# Altium footprint library Basic.PcbLib: 43 footprints (part 3 of 3)
Each footprint in its own frame and in the unit in brackets; x right, y up, seen from the top. Pads: shape width x height; smd on the part's side, far side on the other; paste and mask are expansions set on the pad; w line width, h text height; cw(c..) or ccw(c..) is an arc to the next point about the centre after c.
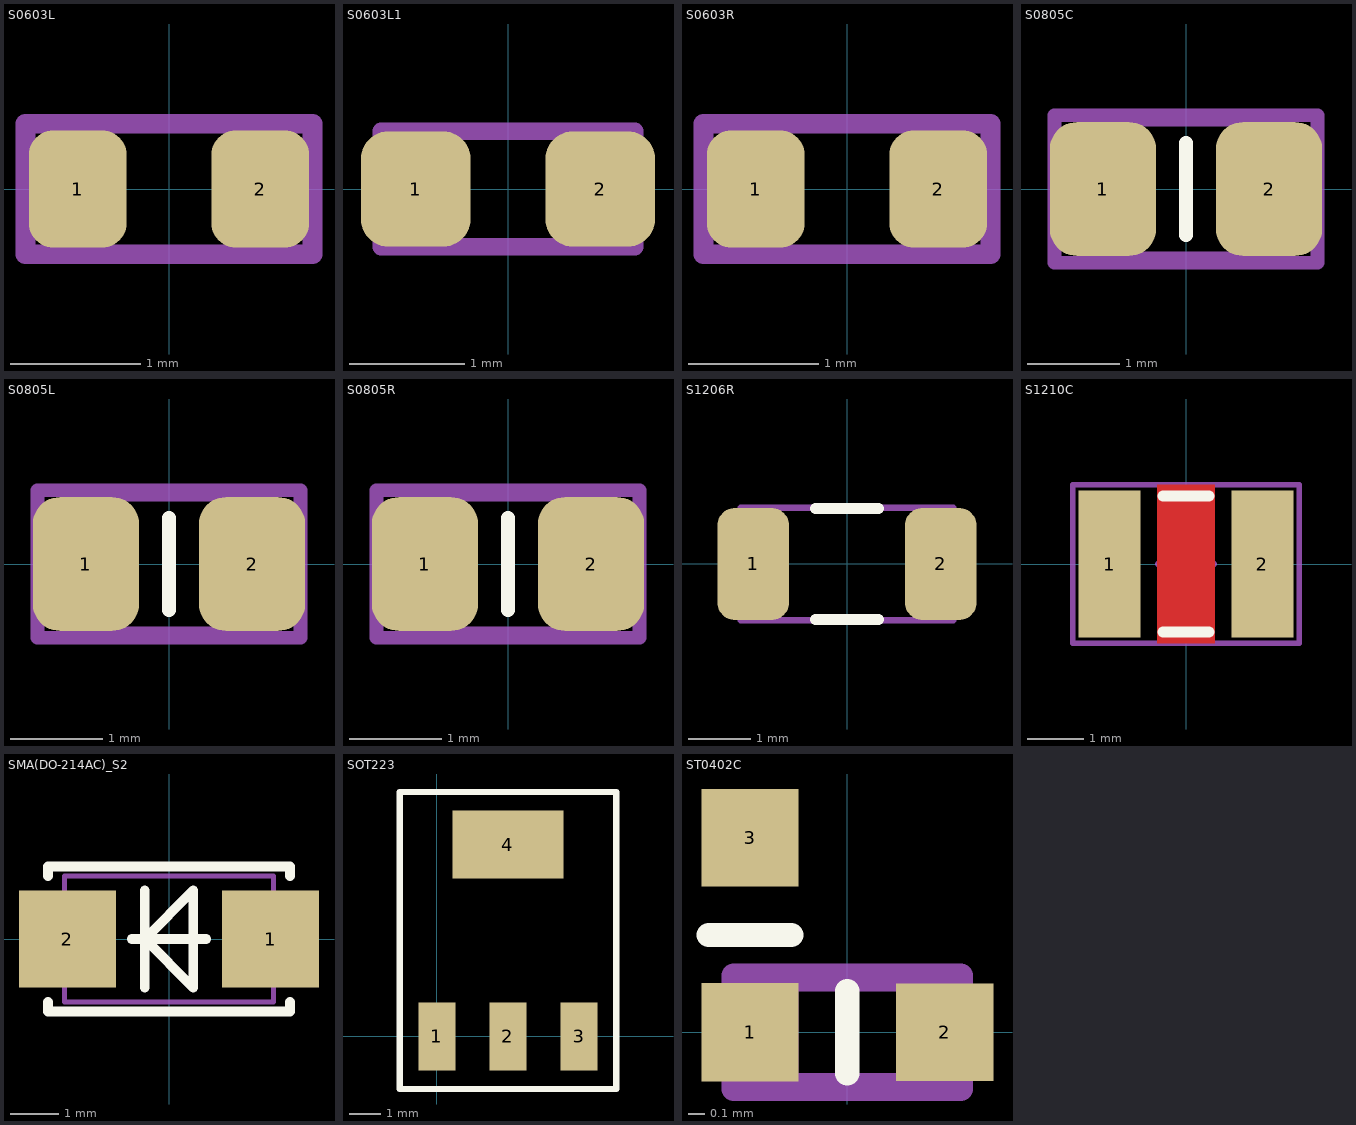
[diagram p2: the footprints below, top view; thin cyan lines are the x and y axes]

## S0603L [mm]
pads (2):
  rrect50% 0.75x0.9 smd: 1(-0.7,0) 2(0.7,0)
Top Component Outline:
  lines w0.15: -1.1,-0.5 1.1,-0.5 1.1,0.5 -1.1,0.5 -1.1,-0.5
3D body: height 0.85, standoff 0, extent -0.874,-0.474 -0.551,0.474
3D body: height 0.85, standoff 0, extent -0.549,-0.474 0.549,0.474
3D body: height 0.85, standoff 0, extent 0.551,-0.474 0.874,0.474

## S0603L1 [mm]
pads (2):
  rrect50% 0.95x1 smd: 1(-0.8,0) 2(0.8,0)
Top Component Outline:
  lines w0.15: -1.1,-0.5 1.1,-0.5 1.1,0.5 -1.1,0.5 -1.1,-0.5
3D body: height 0.85, standoff 0, extent -0.874,-0.474 -0.551,0.474
3D body: height 0.85, standoff 0, extent -0.549,-0.474 0.549,0.474
3D body: height 0.85, standoff 0, extent 0.551,-0.474 0.874,0.474

## S0603R [mm]
pads (2):
  rrect50% 0.75x0.9 smd: 1(-0.7,0) 2(0.7,0)
Top Component Outline:
  lines w0.15: -1.1,-0.5 1.1,-0.5 1.1,0.5 -1.1,0.5 -1.1,-0.5
3D body: height 0.85, standoff 0, extent -0.874,-0.474 -0.551,0.474
3D body: height 0.85, standoff 0, extent -0.549,-0.474 0.549,0.474
3D body: height 0.85, standoff 0, extent 0.551,-0.474 0.874,0.474

## S0805C [mm]
pads (2):
  rrect50% 1.151x1.451 smd: 1(-0.9,0) 2(0.9,0)
Top Overlay:
  lines w0.15: 0,-0.5 0,0.5
Top 3D Body:
  lines w0.1: -0.65,-0.725 -0.65,0.725 ; 0.65,-0.725 0.65,0.725 ; -1.1,-0.725 1.1,-0.725 1.1,0.725 -1.1,0.725 -1.1,-0.725
Top Component Outline:
  lines w0.15: -1.425,-0.8 -1.425,0.8 1.425,0.8 1.425,-0.8 -1.425,-0.8
3D body: height 1.45, standoff 0, extent -0.649,-0.724 0.649,0.724
3D body: height 1.45, standoff 0, extent 0.651,-0.724 1.099,0.724
3D body: height 1.45, standoff 0, extent -1.099,-0.724 -0.651,0.724

## S0805L [mm]
pads (2):
  rrect50% 1.151x1.451 smd: 1(-0.9,0) 2(0.9,0)
Top Overlay:
  lines w0.15: 0,-0.5 0,0.5
Top 3D Body:
  lines w0.1: -0.65,-0.725 -0.65,0.725 ; 0.65,-0.725 0.65,0.725 ; -1.1,-0.725 1.1,-0.725 1.1,0.725 -1.1,0.725 -1.1,-0.725
Top Component Outline:
  lines w0.15: -1.425,-0.8 -1.425,0.8 1.425,0.8 1.425,-0.8 -1.425,-0.8
3D body: height 1.45, standoff 0, extent -1.099,-0.724 -0.651,0.724
3D body: height 1.45, standoff 0, extent -0.649,-0.724 0.649,0.724
3D body: height 1.45, standoff 0, extent 0.651,-0.724 1.099,0.724

## S0805R [mm]
pads (2):
  rrect50% 1.151x1.451 smd: 1(-0.9,0) 2(0.9,0)
Top Overlay:
  lines w0.15: 0,-0.5 0,0.5
Top 3D Body:
  lines w0.1: -0.65,-0.725 -0.65,0.725 ; 0.65,-0.725 0.65,0.725 ; -1.1,-0.725 1.1,-0.725 1.1,0.725 -1.1,0.725 -1.1,-0.725
Top Component Outline:
  lines w0.15: -1.425,-0.8 -1.425,0.8 1.425,0.8 1.425,-0.8 -1.425,-0.8
3D body: height 1.45, standoff 0, extent -0.649,-0.724 0.649,0.724
3D body: height 1.45, standoff 0, extent 0.651,-0.724 1.099,0.724
3D body: height 1.45, standoff 0, extent -1.099,-0.724 -0.651,0.724

## S1206R [mm] "1206 from SM-752 data"
height 1.35
pads (2):
  rrect50% 1.151x1.799 smd: 1(-1.5,0) 2(1.5,0)
Top Overlay:
  lines w0.178: -0.5,-0.889 0.5,-0.889 ; -0.5,0.889 0.5,0.889
Top 3D Body:
  lines w0.1: -1.2,-0.9 -1.2,0.9 ; 1.2,-0.9 1.2,0.9 ; -1.7,-0.9 -1.7,0.9 1.7,0.9 1.7,-0.9 -1.7,-0.9
Top Component Outline:
  lines w0.1: -1.7,-0.9 -1.7,0.9 1.7,0.9 1.7,-0.9 -1.7,-0.9
3D body: height 1.35, standoff 0, extent 1.201,-0.899 1.699,0.899
3D body: height 1.35, standoff 0, extent -1.199,-0.899 1.199,0.899
3D body: height 1.35, standoff 0, extent -1.699,-0.899 -1.201,0.899

## S1210C [mm] "Chip Capacitor, Body 3.2x2.5mm, IPC High Density"
height 1.5
pads (2):
  rect 1.1x2.6 smd: 1(-1.35,0) 2(1.35,0)
Top Layer:
  pour cut-out: -0.508,-1.397 0.508,-1.397 0.508,1.397 -0.508,1.397
Top Overlay:
  lines w0.2: -0.4,-1.2 0.4,-1.2 ; -0.4,1.2 0.4,1.2
Top Component Outline:
  lines w0.1: -0.5,0 0.5,0 ; 0,-0.5 0,0.5 ; -2,-1.4 2,-1.4 2,1.4 -2,1.4 -2,-1.4
3D body: height 2.5, standoff 0, extent -1.651,-1.27 -0.889,1.27
3D body: height 2.5, standoff 0, extent 1.1,-1.27 1.651,1.27
3D body: height 2.5, standoff 0, extent -0.889,-1.27 1.1,1.27

## SMA(DO-214AC)_S2 [mm]
height 1.1
pads (2):
  rect 2x2 smd: 1(2.1,0) 2(-2.1,0)
Top Overlay:
  lines w0.203: -2.5,-1.3 -2.5,-1.5 2.5,-1.5 2.5,-1.3 ; -2.5,1.3 -2.5,1.5 2.5,1.5 2.5,1.3 ; -0.77,0 0.77,0 ; -0.5,-1 -0.5,1 ; -0.5,0 0.5,-1 0.5,1 -0.5,0
Top 3D Body:
  lines w0.1: -2.16,-1.3 2.16,-1.3 2.16,1.3 -2.16,1.3 -2.16,-1.3
3D body "SMA_nominal.stp": height 2.42, standoff 0.02, extent -2.6,-1.3 2.6,1.3

## SOT223 [mm]
pads (4):
  rect 1.2x2.2 smd: 1(0.006,-0.003) 2(2.306,-0.003) 3(4.606,-0.003)
  rect 3.6x2.2 smd: 4(2.306,6.197)
Top Overlay:
  lines w0.2: -1.194,-1.703 -1.194,7.897 5.806,7.897 5.806,-1.703 -1.194,-1.703
3D body "User Library-SOT-223-2.STEP": height 1.85, standoff -0.05, extent -1.01,-0.63 5.69,6.574

## ST0402C [mm]
pads (3):
  rect 0.6x0.61 smd: 1(-0.6,0)
  rect 0.6x0.6 smd: 2(0.6,0) 3(-0.6,1.2)
Top Overlay:
  lines w0.15: -0.854,0.6 -0.346,0.6 ; 0,-0.254 0,0.254
Top 3D Body:
  lines w0.1: -0.35,-0.3 -0.35,0.3 ; 0.35,-0.3 0.35,0.3 ; -0.55,-0.3 -0.55,0.3 0.55,0.3 0.55,-0.3 -0.55,-0.3
Top Component Outline:
  lines w0.15: -0.7,-0.35 0.7,-0.35 0.7,0.35 -0.7,0.35 -0.7,-0.35
3D body: height 0.6, standoff 0, extent -0.549,-0.299 -0.351,0.299
3D body: height 0.6, standoff 0, extent -0.349,-0.299 0.349,0.299
3D body: height 0.6, standoff 0, extent 0.351,-0.299 0.549,0.299